# Altium schematic symbol library Regulator_Linear.SchLib: 1620 symbols (part 16 of 16)
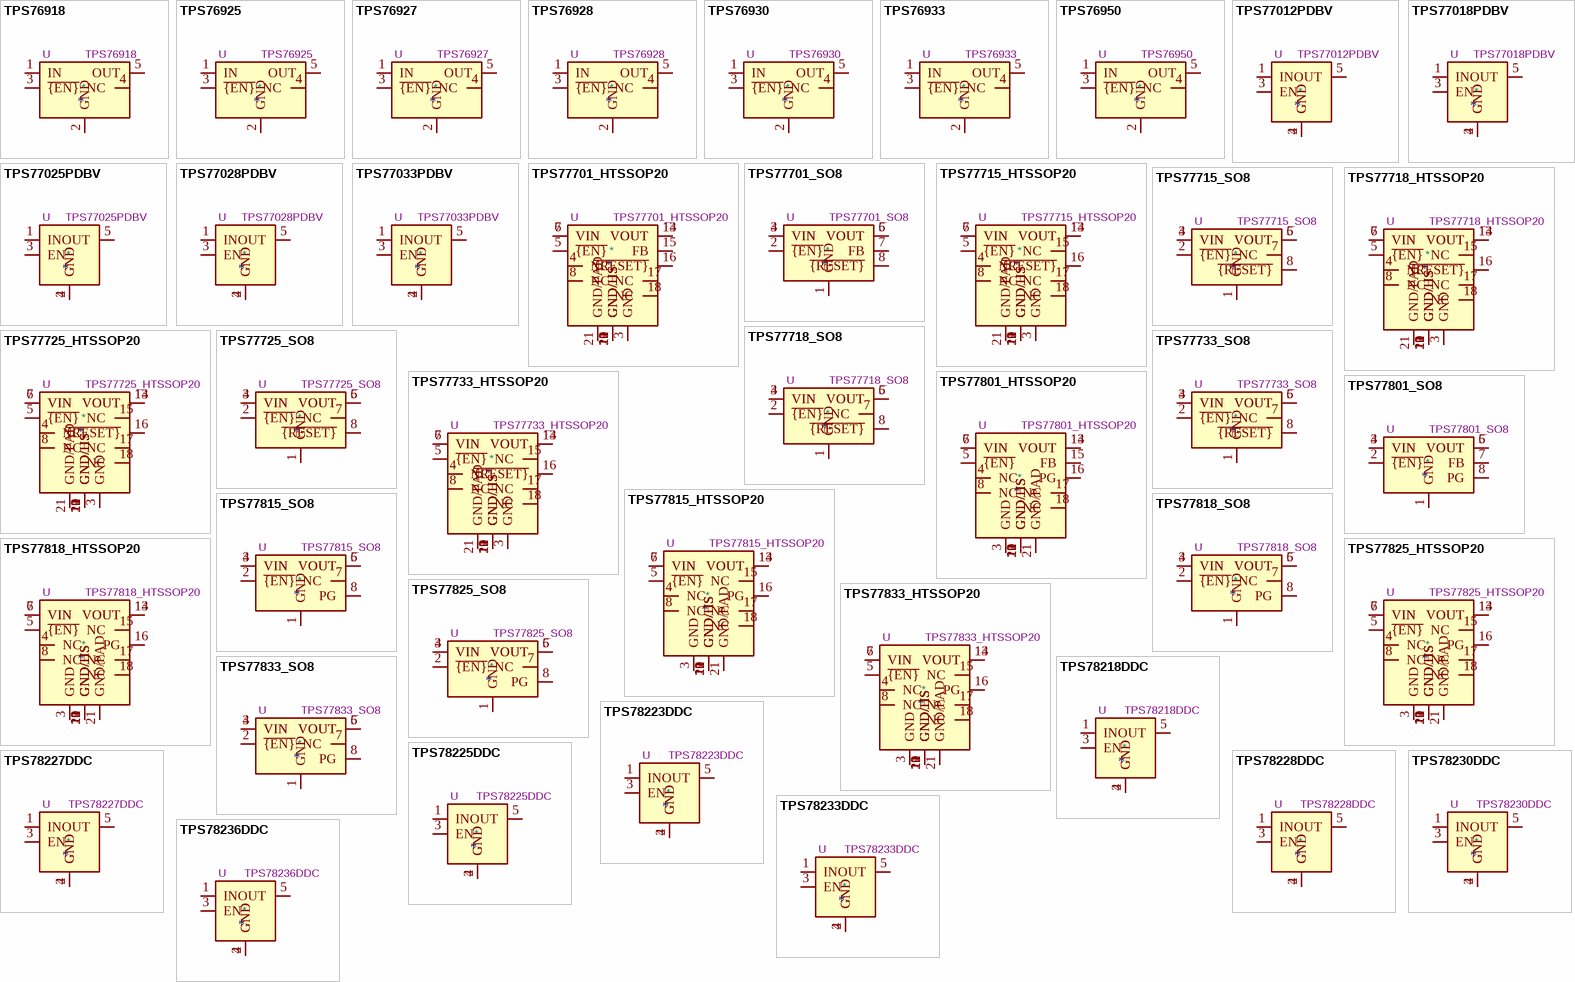
[diagram p55: symbols TPS76918 to TPS78236DDC]

## TPS77825_HTSSOP20
designator *  value TPS77825_HTSSOP20  Reference: U
750mA Fast-Transient Low Dropout Voltage Regulator, Fixed Output 2.5V, HTSSOP20; ki_keywords: 750mA LDO Regulator Fixed Positive; ki_fp_filters: HTSSOP*4.4x6.5mm*P0.65mm*; Footprint: Package_SO:HTSSOP-20-1EP_4.4x6.5mm_P0.65mm_EP3.4x6.5mm_ThermalVias; Datasheet: http://www.ti.com/lit/ds/symlink/tps777.pdf; Description_: 750mA Fast-Transient Low Dropout Voltage Regulator, Fixed Output 2.5V, HTSSOP20
pins: 1 GND/HS, 2 GND/HS, 3 GND, 4 NC, 5 ~{{EN}}, 6 VIN, 7 VIN, 8 NC, 9 GND/HS, 10 GND/HS, 11 GND/HS, 12 GND/HS, 13 VOUT, 14 VOUT, 15 NC, 16 PG, 17 NC, 18 NC, 19 GND/HS, 20 GND/HS, 21 GND/PAD

## TPS77825_SO8
designator *  value TPS77825_SO8  Reference: U
750mA Fast-Transient Low Dropout Voltage Regulator, Fixed Output 2.5V, SO-8; ki_keywords: 750mA LDO Regulator Fixed Positive; ki_fp_filters: SOIC*3.9x4.9mm*P1.27mm*; Footprint: Package_SO:SOIC-8_3.9x4.9mm_P1.27mm; Datasheet: http://www.ti.com/lit/ds/symlink/tps777.pdf; Description_: 750mA Fast-Transient Low Dropout Voltage Regulator, Fixed Output 2.5V, SO-8
pins: 1 GND, 2 ~{{EN}}, 3 VIN, 4 VIN, 5 VOUT, 6 VOUT, 7 NC, 8 PG

## TPS77833_HTSSOP20
designator *  value TPS77833_HTSSOP20  Reference: U
750mA Fast-Transient Low Dropout Voltage Regulator, Fixed Output 3.3V, HTSSOP20; ki_keywords: 750mA LDO Regulator Fixed Positive; ki_fp_filters: HTSSOP*4.4x6.5mm*P0.65mm*; Footprint: Package_SO:HTSSOP-20-1EP_4.4x6.5mm_P0.65mm_EP3.4x6.5mm_ThermalVias; Datasheet: http://www.ti.com/lit/ds/symlink/tps777.pdf; Description_: 750mA Fast-Transient Low Dropout Voltage Regulator, Fixed Output 3.3V, HTSSOP20
pins: 1 GND/HS, 2 GND/HS, 3 GND, 4 NC, 5 ~{{EN}}, 6 VIN, 7 VIN, 8 NC, 9 GND/HS, 10 GND/HS, 11 GND/HS, 12 GND/HS, 13 VOUT, 14 VOUT, 15 NC, 16 PG, 17 NC, 18 NC, 19 GND/HS, 20 GND/HS, 21 GND/PAD

## TPS77833_SO8
designator *  value TPS77833_SO8  Reference: U
750mA Fast-Transient Low Dropout Voltage Regulator, Fixed Output 3.3V, SO-8; ki_keywords: 750mA LDO Regulator Fixed Positive; ki_fp_filters: SOIC*3.9x4.9mm*P1.27mm*; Footprint: Package_SO:SOIC-8_3.9x4.9mm_P1.27mm; Datasheet: http://www.ti.com/lit/ds/symlink/tps777.pdf; Description_: 750mA Fast-Transient Low Dropout Voltage Regulator, Fixed Output 3.3V, SO-8
pins: 1 GND, 2 ~{{EN}}, 3 VIN, 4 VIN, 5 VOUT, 6 VOUT, 7 NC, 8 PG

## TPS78218DDC
designator *  value TPS78218DDC  Reference: U
150-mA, 500nA Ultra-Low-IQ LDO, 1.8V, SOT-23-5; ki_keywords: Single Output LDO Low-Iq; ki_fp_filters: SOT?23*; Footprint: Package_TO_SOT_SMD:SOT-23-5; Datasheet: http://www.ti.com/lit/gpn/tps782; Description_: 150-mA, 500nA Ultra-Low-IQ LDO, 1.8V, SOT-23-5
pins: 1 IN, 2 GND, 3 EN, 4 GND, 5 OUT

## TPS78223DDC
designator *  value TPS78223DDC  Reference: U
150-mA, 500nA Ultra-Low-IQ LDO, 2.3V, SOT-23-5; ki_keywords: Single Output LDO Low-Iq; ki_fp_filters: SOT?23*; Footprint: Package_TO_SOT_SMD:SOT-23-5; Datasheet: http://www.ti.com/lit/gpn/tps782; Description_: 150-mA, 500nA Ultra-Low-IQ LDO, 2.3V, SOT-23-5
pins: 1 IN, 2 GND, 3 EN, 4 GND, 5 OUT

## TPS78225DDC
designator *  value TPS78225DDC  Reference: U
150-mA, 500nA Ultra-Low-IQ LDO, 2.5V, SOT-23-5; ki_keywords: Single Output LDO Low-Iq; ki_fp_filters: SOT?23*; Footprint: Package_TO_SOT_SMD:SOT-23-5; Datasheet: http://www.ti.com/lit/gpn/tps782; Description_: 150-mA, 500nA Ultra-Low-IQ LDO, 2.5V, SOT-23-5
pins: 1 IN, 2 GND, 3 EN, 4 GND, 5 OUT

## TPS78227DDC
designator *  value TPS78227DDC  Reference: U
150-mA, 500nA Ultra-Low-IQ LDO, 2.7V, SOT-23-5; ki_keywords: Single Output LDO Low-Iq; ki_fp_filters: SOT?23*; Footprint: Package_TO_SOT_SMD:SOT-23-5; Datasheet: http://www.ti.com/lit/gpn/tps782; Description_: 150-mA, 500nA Ultra-Low-IQ LDO, 2.7V, SOT-23-5
pins: 1 IN, 2 GND, 3 EN, 4 GND, 5 OUT

## TPS78228DDC
designator *  value TPS78228DDC  Reference: U
150-mA, 500nA Ultra-Low-IQ LDO, 2.8V, SOT-23-5; ki_keywords: Single Output LDO Low-Iq; ki_fp_filters: SOT?23*; Footprint: Package_TO_SOT_SMD:SOT-23-5; Datasheet: http://www.ti.com/lit/gpn/tps782; Description_: 150-mA, 500nA Ultra-Low-IQ LDO, 2.8V, SOT-23-5
pins: 1 IN, 2 GND, 3 EN, 4 GND, 5 OUT

## TPS78230DDC
designator *  value TPS78230DDC  Reference: U
150-mA, 500nA Ultra-Low-IQ LDO, 3.0V, SOT-23-5; ki_keywords: Single Output LDO Low-Iq; ki_fp_filters: SOT?23*; Footprint: Package_TO_SOT_SMD:SOT-23-5; Datasheet: http://www.ti.com/lit/gpn/tps782; Description_: 150-mA, 500nA Ultra-Low-IQ LDO, 3.0V, SOT-23-5
pins: 1 IN, 2 GND, 3 EN, 4 GND, 5 OUT

## TPS78233DDC
designator *  value TPS78233DDC  Reference: U
150-mA, 500nA Ultra-Low-IQ LDO, 3.3V, SOT-23-5; ki_keywords: Single Output LDO Low-Iq; ki_fp_filters: SOT?23*; Footprint: Package_TO_SOT_SMD:SOT-23-5; Datasheet: http://www.ti.com/lit/gpn/tps782; Description_: 150-mA, 500nA Ultra-Low-IQ LDO, 3.3V, SOT-23-5
pins: 1 IN, 2 GND, 3 EN, 4 GND, 5 OUT

## TPS78236DDC
designator *  value TPS78236DDC  Reference: U
150-mA, 500nA Ultra-Low-IQ LDO, 3.6V, SOT-23-5; ki_keywords: Single Output LDO Low-Iq; ki_fp_filters: SOT?23*; Footprint: Package_TO_SOT_SMD:SOT-23-5; Datasheet: http://www.ti.com/lit/gpn/tps782; Description_: 150-mA, 500nA Ultra-Low-IQ LDO, 3.6V, SOT-23-5
pins: 1 IN, 2 GND, 3 EN, 4 GND, 5 OUT

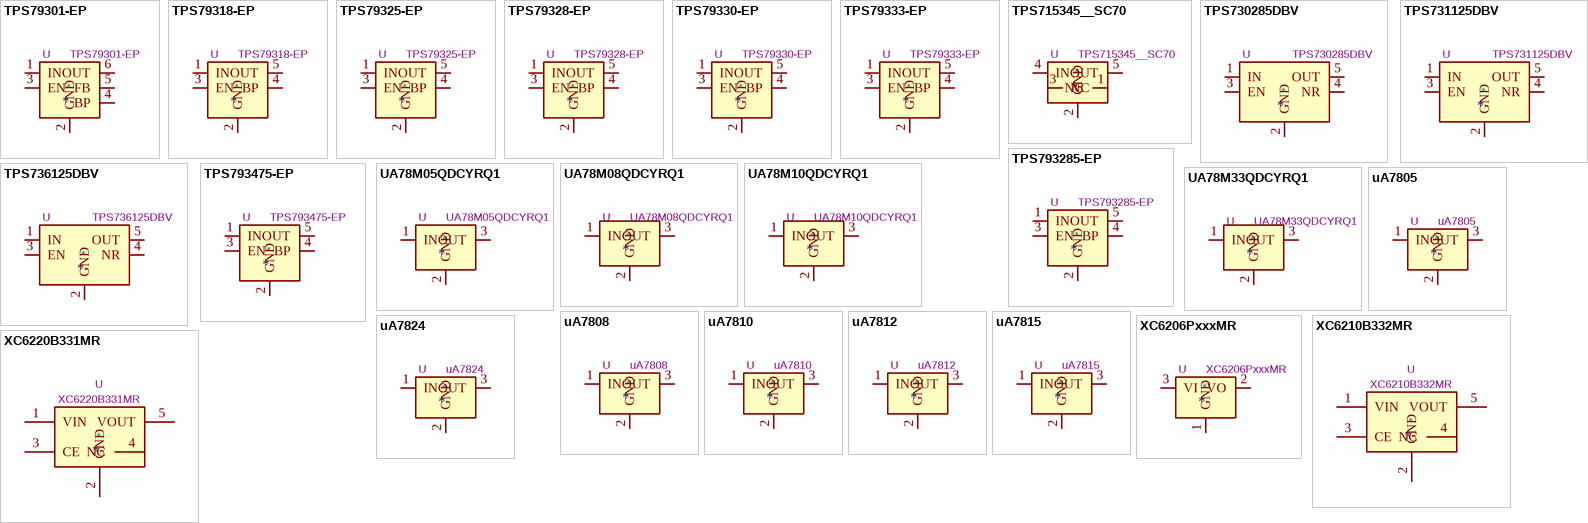
[diagram p40: symbols TPS79301-EP to XC6220B331MR]

## TPS79301-EP
designator *  value TPS79301-EP  Reference: U
200mA UltraLow-Noise, High-Precision, Fast RF, Low Drop-out Voltage Regulator, Adjustable Output, SOT-23; ki_keywords: LDO Voltage Regulator 200mA adjustable; ki_fp_filters: SOT?23*; Footprint: Package_TO_SOT_SMD:SOT-23-6; Datasheet: http://www.ti.com/lit/ds/symlink/tps79333-ep.pdf; Description_: 200mA UltraLow-Noise, High-Precision, Fast RF, Low Drop-out Voltage Regulator, Adjustable Output, SOT-23
pins: 1 IN, 2 GND, 3 EN, 4 BP, 5 FB, 6 OUT

## TPS79318-EP
designator *  value TPS79318-EP  Reference: U
200mA UltraLow-Noise, High-Precision, Fast RF, Low Drop-out Voltage Regulator, Fixed Output 1.8V, SOT-23; ki_keywords: LDO Voltage Regulator 200mA; ki_fp_filters: SOT?23*; Footprint: Package_TO_SOT_SMD:SOT-23-5; Datasheet: http://www.ti.com/lit/ds/symlink/tps79333-ep.pdf; Description_: 200mA UltraLow-Noise, High-Precision, Fast RF, Low Drop-out Voltage Regulator, Fixed Output 1.8V, SOT-23
pins: 1 IN, 2 GND, 3 EN, 4 BP, 5 OUT

## TPS79325-EP
designator *  value TPS79325-EP  Reference: U
200mA UltraLow-Noise, High-Precision, Fast RF, Low Drop-out Voltage Regulator, Fixed Output 2.5V, SOT-23; ki_keywords: LDO Voltage Regulator 200mA; ki_fp_filters: SOT?23*; Footprint: Package_TO_SOT_SMD:SOT-23-5; Datasheet: http://www.ti.com/lit/ds/symlink/tps79333-ep.pdf; Description_: 200mA UltraLow-Noise, High-Precision, Fast RF, Low Drop-out Voltage Regulator, Fixed Output 2.5V, SOT-23
pins: 1 IN, 2 GND, 3 EN, 4 BP, 5 OUT

## TPS79328-EP
designator *  value TPS79328-EP  Reference: U
200mA UltraLow-Noise, High-Precision, Fast RF, Low Drop-out Voltage Regulator, Fixed Output 2.8V, SOT-23; ki_keywords: LDO Voltage Regulator 200mA; ki_fp_filters: SOT?23*; Footprint: Package_TO_SOT_SMD:SOT-23-5; Datasheet: http://www.ti.com/lit/ds/symlink/tps79333-ep.pdf; Description_: 200mA UltraLow-Noise, High-Precision, Fast RF, Low Drop-out Voltage Regulator, Fixed Output 2.8V, SOT-23
pins: 1 IN, 2 GND, 3 EN, 4 BP, 5 OUT

## TPS79330-EP
designator *  value TPS79330-EP  Reference: U
200mA UltraLow-Noise, High-Precision, Fast RF, Low Drop-out Voltage Regulator, Fixed Output 3.0V, SOT-23; ki_keywords: LDO Voltage Regulator 200mA; ki_fp_filters: SOT?23*; Footprint: Package_TO_SOT_SMD:SOT-23-5; Datasheet: http://www.ti.com/lit/ds/symlink/tps79333-ep.pdf; Description_: 200mA UltraLow-Noise, High-Precision, Fast RF, Low Drop-out Voltage Regulator, Fixed Output 3.0V, SOT-23
pins: 1 IN, 2 GND, 3 EN, 4 BP, 5 OUT

## TPS79333-EP
designator *  value TPS79333-EP  Reference: U
200mA UltraLow-Noise, High-Precision, Fast RF, Low Drop-out Voltage Regulator, Fixed Output 3.3V, SOT-23; ki_keywords: LDO Voltage Regulator 200mA; ki_fp_filters: SOT?23*; Footprint: Package_TO_SOT_SMD:SOT-23-5; Datasheet: http://www.ti.com/lit/ds/symlink/tps79333-ep.pdf; Description_: 200mA UltraLow-Noise, High-Precision, Fast RF, Low Drop-out Voltage Regulator, Fixed Output 3.3V, SOT-23
pins: 1 IN, 2 GND, 3 EN, 4 BP, 5 OUT

## TPS715345__SC70
designator *  value TPS715345__SC70  Reference: U
Low-drop Voltage Regulator, Io up to 50mA, Fixed Vo 3.45V, Ignd 3.2uA , SC70.; ki_keywords: LDO regulator voltage; ki_fp_filters: *SC?70*; Footprint: Package_TO_SOT_SMD:SOT-353_SC-70-5; Datasheet: http://www.ti.com/lit/ds/symlink/tps715.pdf; Description_: Low-drop Voltage Regulator, Io up to 50mA, Fixed Vo 3.45V, Ignd 3.2uA , SC70.
pins: 1 NC, 2 GND, 3 NC, 4 IN, 5 OUT

## TPS730285DBV
designator *  value TPS730285DBV  Reference: U
Low Noise, High PSRR, 200mA Low Drop 2.85V Regulator, SOT-23-5; ki_keywords: Fixed LDO 200mA; ki_fp_filters: SOT?23*; Footprint: Package_TO_SOT_SMD:SOT-23-5; Datasheet: https://www.ti.com/lit/ds/symlink/tps730.pdf; Description_: Low Noise, High PSRR, 200mA Low Drop 2.85V Regulator, SOT-23-5
pins: 1 IN, 2 GND, 3 EN, 4 NR, 5 OUT

## TPS731125DBV
designator *  value TPS731125DBV  Reference: U
Cap free NMOS 150mA Low Drop 1.25V Regulator, SOT-23-5; ki_keywords: Cap free Fixed LDO 150mA; ki_fp_filters: SOT?23*; Footprint: Package_TO_SOT_SMD:SOT-23-5; Datasheet: http://www.ti.com/lit/ds/symlink/tps731.pdf; Description_: Cap free NMOS 150mA Low Drop 1.25V Regulator, SOT-23-5
pins: 1 IN, 2 GND, 3 EN, 4 NR, 5 OUT

## TPS736125DBV
designator *  value TPS736125DBV  Reference: U
Cap free NMOS 400mA Low Drop 1.25V Regulator, SOT-23-5; ki_keywords: Cap free Fixed LDO 400mA; ki_fp_filters: SOT?23*; Footprint: Package_TO_SOT_SMD:SOT-23-5; Datasheet: http://www.ti.com/lit/ds/symlink/tps736.pdf; Description_: Cap free NMOS 400mA Low Drop 1.25V Regulator, SOT-23-5
pins: 1 IN, 2 GND, 3 EN, 4 NR, 5 OUT

## TPS793285-EP
designator *  value TPS793285-EP  Reference: U
200mA UltraLow-Noise, High-Precision, Fast RF, Low Drop-out Voltage Regulator, Fixed Output 2.85V, SOT-23; ki_keywords: LDO Voltage Regulator 200mA; ki_fp_filters: SOT?23*; Footprint: Package_TO_SOT_SMD:SOT-23-5; Datasheet: http://www.ti.com/lit/ds/symlink/tps79333-ep.pdf; Description_: 200mA UltraLow-Noise, High-Precision, Fast RF, Low Drop-out Voltage Regulator, Fixed Output 2.85V, SOT-23
pins: 1 IN, 2 GND, 3 EN, 4 BP, 5 OUT

## TPS793475-EP
designator *  value TPS793475-EP  Reference: U
200mA UltraLow-Noise, High-Precision, Fast RF, Low Drop-out Voltage Regulator, Fixed Output 4.75V, SOT-23; ki_keywords: LDO Voltage Regulator 200mA; ki_fp_filters: SOT?23*; Footprint: Package_TO_SOT_SMD:SOT-23-5; Datasheet: http://www.ti.com/lit/ds/symlink/tps79333-ep.pdf; Description_: 200mA UltraLow-Noise, High-Precision, Fast RF, Low Drop-out Voltage Regulator, Fixed Output 4.75V, SOT-23
pins: 1 IN, 2 GND, 3 EN, 4 BP, 5 OUT

## UA78M05QDCYRQ1
designator *  value UA78M05QDCYRQ1  Reference: U
Positive 500mA 25V Linear Regulator, Fixed Output 5V, SOT-223; ki_keywords: Automotive Q100 0.5A; ki_fp_filters: SOT?223*; Footprint: Package_TO_SOT_SMD:SOT-223-3_TabPin2; Datasheet: https://www.ti.com/lit/gpn/UA78M-Q1; Description_: Positive 500mA 25V Linear Regulator, Fixed Output 5V, SOT-223
pins: 1 IN, 2 GND, 3 OUT

## UA78M08QDCYRQ1
designator *  value UA78M08QDCYRQ1  Reference: U
Positive 500mA 25V Linear Regulator, Fixed Output 8V, SOT-223; ki_keywords: Automotive Q100 0.5A; ki_fp_filters: SOT?223*; Footprint: Package_TO_SOT_SMD:SOT-223-3_TabPin2; Datasheet: https://www.ti.com/lit/gpn/UA78M-Q1; Description_: Positive 500mA 25V Linear Regulator, Fixed Output 8V, SOT-223
pins: 1 IN, 2 GND, 3 OUT

## UA78M10QDCYRQ1
designator *  value UA78M10QDCYRQ1  Reference: U
Positive 500mA 28V Linear Regulator, Fixed Output 10V, SOT-223; ki_keywords: Automotive Q100 0.5A; ki_fp_filters: SOT?223*; Footprint: Package_TO_SOT_SMD:SOT-223-3_TabPin2; Datasheet: https://www.ti.com/lit/gpn/UA78M-Q1; Description_: Positive 500mA 28V Linear Regulator, Fixed Output 10V, SOT-223
pins: 1 IN, 2 GND, 3 OUT

## UA78M33QDCYRQ1
designator *  value UA78M33QDCYRQ1  Reference: U
Positive 500mA 25V Linear Regulator, Fixed Output 3.3V, SOT-223; ki_keywords: Automotive Q100 0.5A; ki_fp_filters: SOT?223*; Footprint: Package_TO_SOT_SMD:SOT-223-3_TabPin2; Datasheet: https://www.ti.com/lit/gpn/UA78M-Q1; Description_: Positive 500mA 25V Linear Regulator, Fixed Output 3.3V, SOT-223
pins: 1 IN, 2 GND, 3 OUT

## uA7805
designator *  value uA7805  Reference: U
Positive 1A 35V Linear Regulator, Fixed Output 5V, TO-220/TO-263; ki_keywords: Voltage Regulator 1A Positive; ki_fp_filters: TO?263* TO?220*; Datasheet: http://www.ti.com/lit/ds/symlink/ua78.pdf; Description_: Positive 1A 35V Linear Regulator, Fixed Output 5V, TO-220/TO-263
pins: 1 IN, 2 GND, 3 OUT

## uA7808
designator *  value uA7808  Reference: U
Positive 1A 35V Linear Regulator, Fixed Output 8V, TO-220/TO-263; ki_keywords: Voltage Regulator 1A Positive; ki_fp_filters: TO?263* TO?220*; Datasheet: http://www.ti.com/lit/ds/symlink/ua78.pdf; Description_: Positive 1A 35V Linear Regulator, Fixed Output 8V, TO-220/TO-263
pins: 1 IN, 2 GND, 3 OUT

## uA7810
designator *  value uA7810  Reference: U
Positive 1A 35V Linear Regulator, Fixed Output 10V, TO-220/TO-263; ki_keywords: Voltage Regulator 1A Positive; ki_fp_filters: TO?263* TO?220*; Datasheet: http://www.ti.com/lit/ds/symlink/ua78.pdf; Description_: Positive 1A 35V Linear Regulator, Fixed Output 10V, TO-220/TO-263
pins: 1 IN, 2 GND, 3 OUT

## uA7812
designator *  value uA7812  Reference: U
Positive 1A 35V Linear Regulator, Fixed Output 12V, TO-220/TO-263; ki_keywords: Voltage Regulator 1A Positive; ki_fp_filters: TO?263* TO?220*; Datasheet: http://www.ti.com/lit/ds/symlink/ua78.pdf; Description_: Positive 1A 35V Linear Regulator, Fixed Output 12V, TO-220/TO-263
pins: 1 IN, 2 GND, 3 OUT

## uA7815
designator *  value uA7815  Reference: U
Positive 1A 35V Linear Regulator, Fixed Output 15V, TO-220/TO-263; ki_keywords: Voltage Regulator 1A Positive; ki_fp_filters: TO?263* TO?220*; Datasheet: http://www.ti.com/lit/ds/symlink/ua78.pdf; Description_: Positive 1A 35V Linear Regulator, Fixed Output 15V, TO-220/TO-263
pins: 1 IN, 2 GND, 3 OUT

## uA7824
designator *  value uA7824  Reference: U
Positive 1A 35V Linear Regulator, Fixed Output 24V, TO-220/TO-263; ki_keywords: Voltage Regulator 1A Positive; ki_fp_filters: TO?263* TO?220*; Datasheet: http://www.ti.com/lit/ds/symlink/ua78.pdf; Description_: Positive 1A 35V Linear Regulator, Fixed Output 24V, TO-220/TO-263
pins: 1 IN, 2 GND, 3 OUT

## XC6206PxxxMR
designator *  value XC6206PxxxMR  Reference: U
Positive 60-250mA Low Dropout Regulator, Fixed Output, SOT-23; ki_keywords: Torex LDO Voltage Regulator Fixed Positive; ki_fp_filters: SOT?23?3*; Footprint: Package_TO_SOT_SMD:SOT-23-3; Datasheet: https://www.torexsemi.com/file/xc6206/XC6206.pdf; Description_: Positive 60-250mA Low Dropout Regulator, Fixed Output, SOT-23
pins: 1 GND, 2 VO, 3 VI

## XC6210B332MR
designator *  value XC6210B332MR  Reference: U
700mA, Low Drop-out Voltage Regulator, Fixed Output 3.3V, SOT-23-5; ki_keywords: LDO Voltage Regulator 700mA; ki_fp_filters: SOT?23*; Footprint: Package_TO_SOT_SMD:SOT-23-5; Datasheet: https://www.torexsemi.com/file/xc6210/XC6210.pdf; Description_: 700mA, Low Drop-out Voltage Regulator, Fixed Output 3.3V, SOT-23-5
pins: 1 VIN, 2 GND, 3 CE, 4 NC, 5 VOUT

## XC6220B331MR
designator *  value XC6220B331MR  Reference: U
1A, Low Drop-out Voltage Regulator, Fixed Output 3.3V, SOT-23-5; ki_keywords: LDO Voltage Regulator 1A; ki_fp_filters: SOT?23*; Footprint: Package_TO_SOT_SMD:SOT-23-5; Datasheet: https://www.torexsemi.com/file/xc6220/XC6220.pdf; Description_: 1A, Low Drop-out Voltage Regulator, Fixed Output 3.3V, SOT-23-5
pins: 1 VIN, 2 GND, 3 CE, 4 NC, 5 VOUT